# Altium schematic symbol library AT83C24_SOP28.SchLib: 1 symbol
Pins are listed as number, name and electrical type; pins without a type are passive.

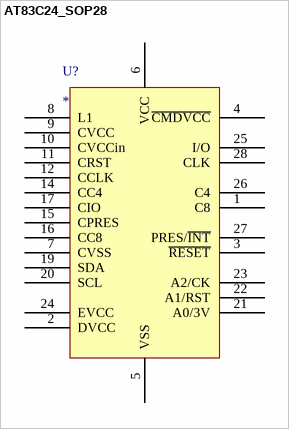
[diagram p0: symbol AT83C24_SOP28]

## AT83C24_SOP28
designator U?
pins: 1 C8, 2 DVCC, 3 ~{RESET}, 4 ~{CMDVCC}, 5 VSS, 6 VCC, 7 CVSS, 8 L1, 9 CVCC, 10 CVCCin, 11 CRST, 12 CCLK, 14 CC4, 15 CPRES, 16 CC8, 17 CIO, 19 SDA, 20 SCL, 21 A0/3V, 22 A1/RST, 23 A2/CK, 24 EVCC, 25 I/O, 26 C4, 27 PRES/~{INT}, 28 CLK